# Altium integrated library CI interfaz RS232.IntLib: 1 symbol
Pins are listed as number, name and electrical type; pins without a type are passive.

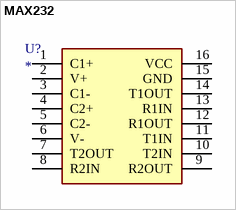
[diagram p0: symbol MAX232]

## MAX232
designator U?
ComponentLink1Description: datasheet; ComponentLink1URL: https://www.ti.com/lit/ds/symlink/max232.pdf
footprint SOIC-16
pins: 1 C1+, 2 V+, 3 C1-, 4 C2+, 5 C2-, 6 V-, 7 T2OUT, 8 R2IN, 9 R2OUT, 10 T2IN, 11 T1IN, 12 R1OUT, 13 R1IN, 14 T1OUT, 15 GND, 16 VCC